# Altium footprint library AMPHENOL_55917-001LF.PcbLib: 1 footprints
Each footprint in its own frame and in the unit in brackets; x right, y up, seen from the top. Pads: shape width x height; smd on the part's side, far side on the other; paste and mask are expansions set on the pad; w line width, h text height; cw(c..) or ccw(c..) is an arc to the next point about the centre after c.
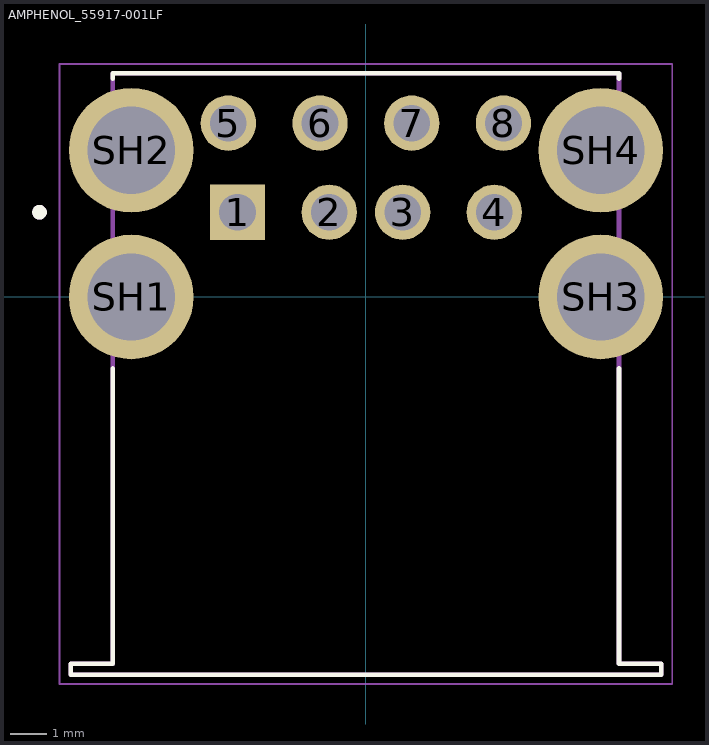
[diagram p0: the footprint, top view; thin cyan lines are the x and y axes]

## AMPHENOL_55917-001LF [mm]
height 18
pads (12):
  rect 1.508x1.508 hole 1: 1(-3.5,2.31)
  round 1.508 hole 1: 2(-1,2.31) 3(1,2.31) 4(3.5,2.31) 5(-3.75,4.74) 6(-1.25,4.74) 7(1.25,4.74) 8(3.75,4.74)
  round 3.396 hole 2.38: SH1(-6.4,0) SH2(-6.4,4) SH3(6.4,0) SH4(6.4,4)
Top Overlay:
  circle w0.2: c-8.9,2.31 r0.1
  lines w0.127: -6.9,-1.95 -6.9,-10 -8.05,-10 -8.05,-10.3 8.05,-10.3 8.05,-10 6.9,-10 6.9,-1.95 ; -6.9,5.95 -6.9,6.1 6.9,6.1 6.9,5.95
Mechanical 13:
  circle w0.2: c-8.9,2.31 r0.1
  lines w0.127: -8.05,-10.3 8.05,-10.3 8.05,-10 6.9,-10 6.9,6.1 -6.9,6.1 -6.9,-10 -8.05,-10 -8.05,-10.3
Mechanical 15:
  lines w0.05: -8.35,-10.55 8.35,-10.55 8.35,6.35 -8.35,6.35 -8.35,-10.55